# EAGLE library part FM25V02A (library Memory)
FRAM 256KBIT 40MHZ Datasheet <http://www.cypress.com/file/139666/download>
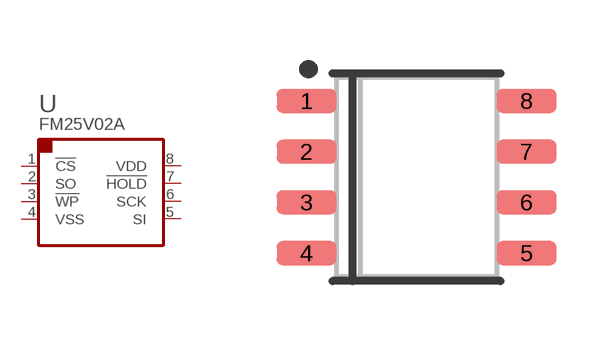
[diagram p12: symbol with the pads of S08N; footprint S08N]

Designator prefix U

## FM25V02A-G  [S08N]
1  !CS  in
2  SO  out
3  !WP  in
4  VSS  pwr
5  SI  in
6  SCK  in
7  !HOLD  in
8  VDD  pwr

## Footprint S08N (pad centres in mm)
SO8N - 8-Lead Plastic Small Outline 150 mils body
smd 1.5 x 0.6: 1 -2.75,1.905; 2 -2.75,0.635; 3 -2.75,-0.635; 4 -2.75,-1.905; 5 2.75,-1.905; 6 2.75,-0.635; 7 2.75,0.635; 8 2.75,1.905